# Altium schematic symbol library DSUB09.SchLib: 1 symbol
Pins are listed as number, name and electrical type; pins without a type are passive.

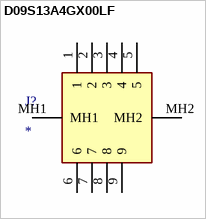
[diagram p0: symbol D09S13A4GX00LF]

## D09S13A4GX00LF
designator J?
Connector; Manufacturer_Name: Amphenol; Manufacturer_Part_Number: D09S13A4GX00LF; Description: D-Sub Standard Connectors 9P RA SOLDER FEMALE EUROPE STANDARD; Datasheet Link: http://www.mouser.com/ds/2/18/c01-8646-0000-943058.pdf; Height: 13.86mm; Arrow Part Number: D09S13A4GX00LF; Arrow Price/Stock: https://www.arrow.com/en/products/d09s13a4gx00lf/amphenol-fci; Mouser Part Number: 649-D09S13A4GX00LF; Mouser Price/Stock: https://www.mouser.com/Search/Refine.aspx?Keyword=649-D09S13A4GX00LF
footprint D09S13A4GX00LF
pins: 1, 2, 3, 4, 5, 6, 7, 8, 9, MH1, MH2